# Altium footprint library E17-12_CC.PcbLib: 5 footprints
Each footprint in its own frame and in the unit in brackets; x right, y up, seen from the top. Pads: shape width x height; smd on the part's side, far side on the other; paste and mask are expansions set on the pad; w line width, h text height; cw(c..) or ccw(c..) is an arc to the next point about the centre after c.
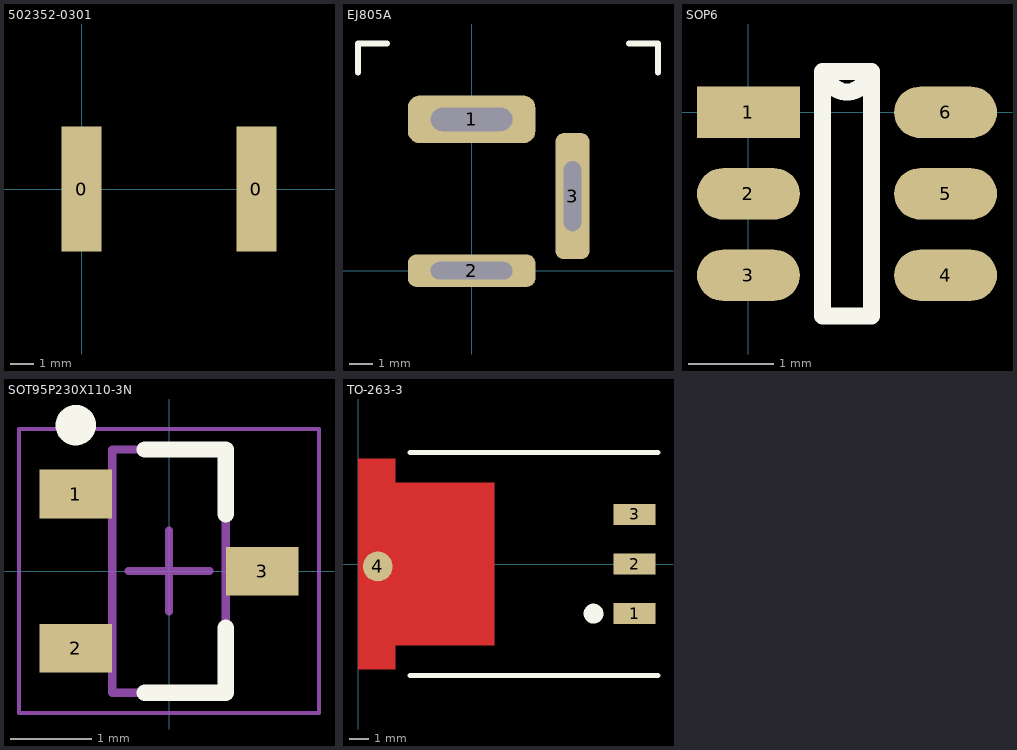
[diagram p0: the footprints below, top view; thin cyan lines are the x and y axes]

## 502352-0301 [mm] "Molex 502352-0301"
pads (2):
  rect 1.7x5.3 smd: 0(0,0) 0(7.4,0)

## EJ805A [mm] "CONN PWR JACK 2.1X5.5MM SOLDER"
height 0.011
pads (3):
  rrect50% 5.56x2.08 hole 1.02 slot 3.56 at 0 deg: 1(0,6.6)
  rrect50% 5.56x1.4 hole 0.76 slot 3.56 at 0 deg: 2(0,0)
  rrect50% 1.5x5.5 hole 0.76 slot 3.05 at 90 deg: 3(4.4,3.25)
Top Overlay:
  lines w0.254: -4.953,8.636 -4.953,9.906 -3.683,9.906 ; 6.858,9.906 8.128,9.906 8.128,8.636
3D body: height 10.85, standoff 0, extent -4.4,-7.49 7.366,9.271

## SOP6 [mm]
pads (6):
  rect 1.2x0.6 smd: 1(0,0)
  oval 1.2x0.6 smd: 2(0,-0.95) 3(0,-1.9) 4(2.3,-1.9) 5(2.3,-0.95) 6(2.3,0)
Top Overlay:
  lines w0.2: 0.865,-2.375 0.865,0.475 1.388,0.475 cw(c1.15,0.475) 0.913,0.475 1.435,0.475 1.435,-2.375 0.865,-2.375

## SOT95P230X110-3N [mm] "SOT23, 3-Leads, Body 2.90x2.30mm, Pitch 0.95mm, IPC Medium Density"
height 1.1
pads (3):
  rect 0.9x0.6 smd: 1(-1.15,0.95) 2(-1.15,-0.95) 3(1.15,0)
Top Overlay:
  circle w0.25: c-1.15,1.8 r0.125
  lines w0.2: -0.3,-1.5 0.7,-1.5 0.7,-0.7 ; -0.3,1.5 0.7,1.5 0.7,0.7
Mechanical 13:
  lines w0.1: -0.7,-1.5 0.7,-1.5 0.7,1.5 -0.7,1.5 -0.7,-1.5
Mechanical 15:
  lines w0.05: -1.85,-1.75 1.85,-1.75 1.85,1.75 -1.85,1.75 -1.85,-1.75
  lines w0.1: -0.5,0 0.5,0 ; 0,-0.5 0,0.5
3D body: height 1.1, standoff 0.05, extent -0.7,-1.5 0.7,1.5

## TO-263-3 [mm] "TO-263 3 Pin Package"
pads (4):
  rect 2.16x1.07 smd: 1(14.17,-2.54) 2(14.17,0) 3(14.17,2.54)
  round 1.524 smd: 4(1.016,-0.127)
Top Layer:
  region: 0,5.4 1.91,5.4 1.91,4.165 6.99,4.165 6.99,-4.165 1.91,-4.165 1.91,-5.4 0,-5.4
Top Overlay:
  circle w0.508: c12.065,-2.54 r0.254
  lines w0.254: 2.667,-5.715 15.367,-5.715 ; 2.667,5.715 15.367,5.715
3D body: height 4.57, standoff 0, extent 0,-5.08 14.35,5.08